# EAGLE library part ADXL33X (library adafruit_mod)
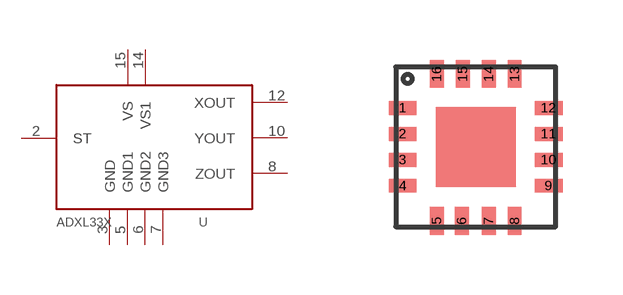
[diagram p70: symbol with the pads of 16LCSP; footprint 16LCSP]

Designator prefix -

## ADXL33X  [16LCSP]
2  ST  in
3  GND  sup
5  GND1  sup
6  GND2  sup
7  GND3  sup
8  ZOUT  out
10  YOUT  out
12  XOUT  out
14  VS1  sup
15  VS  sup

## Footprint 16LCSP (pad centres in mm)
smd 0.7 x 0.35: 1 -1.825,0.975; 2 -1.825,0.325; 3 -1.825,-0.325; 4 -1.825,-0.975; 9 1.825,-0.975; 10 1.825,-0.325; 11 1.825,0.325; 12 1.825,0.975
smd 0.35 x 0.7: 5 -0.975,-1.85; 6 -0.35,-1.85; 7 0.325,-1.85; 8 0.975,-1.85; 13 0.975,1.825; 14 0.325,1.825; 15 -0.325,1.825; 16 -0.975,1.825